# Altium schematic symbol library acopians-monitoring-hw-library-schematic.SchLib: 27 symbols
Pins are listed as number, name and electrical type; pins without a type are passive.

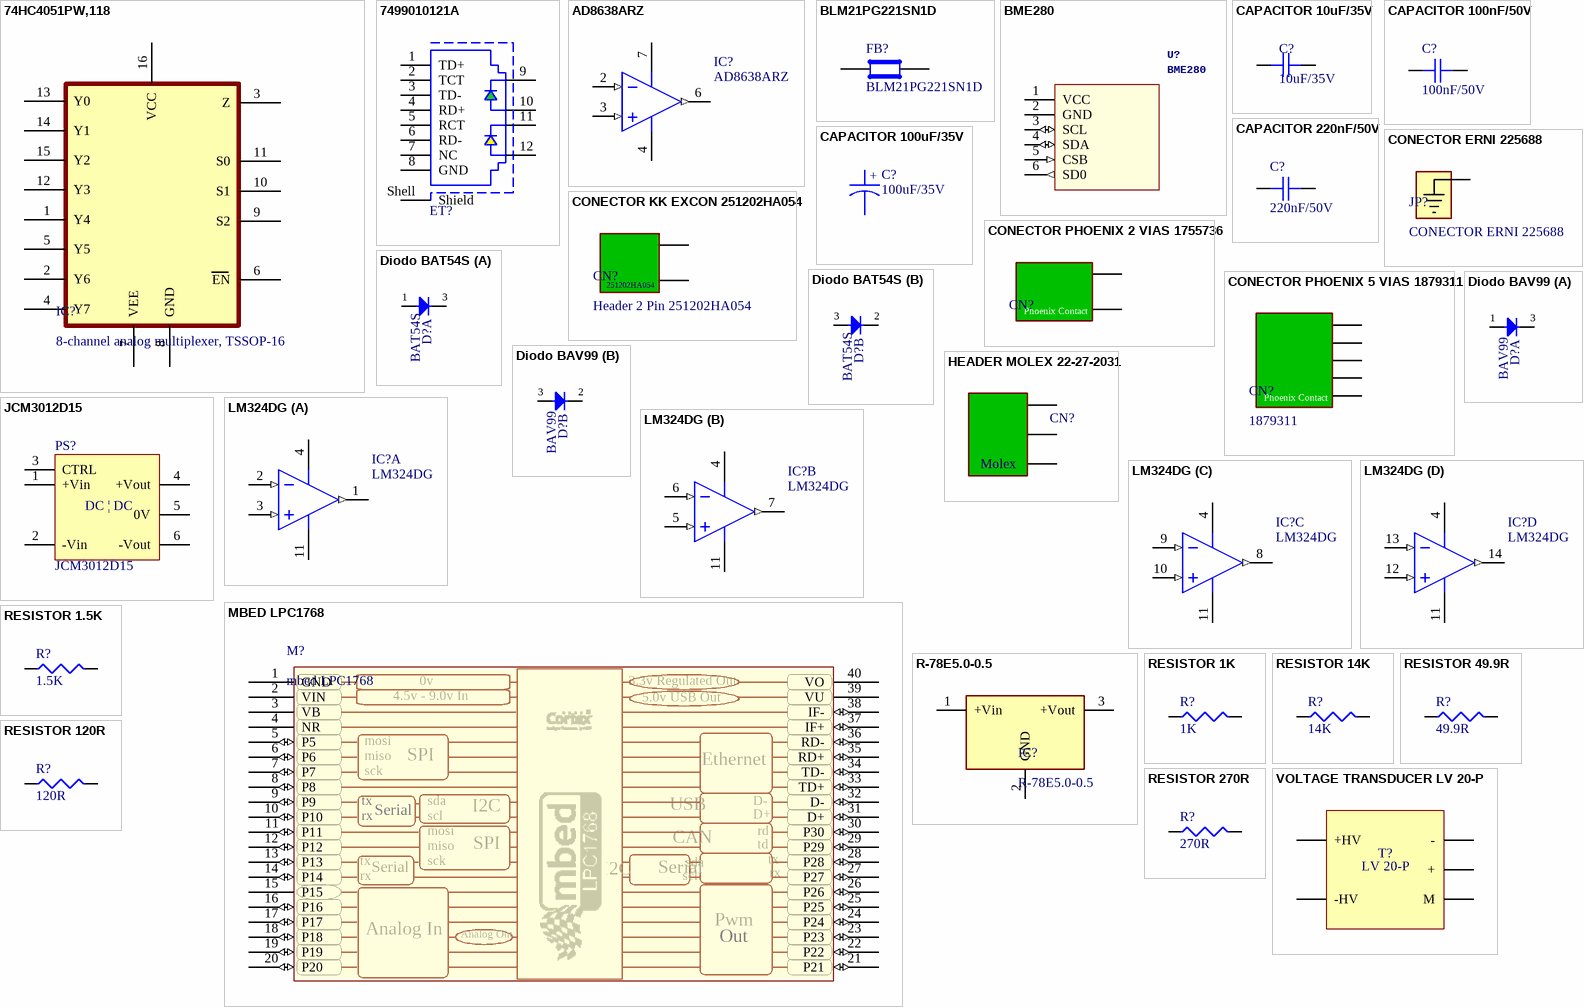
[diagram p0: symbols 74HC4051PW,118 to VOLTAGE TRANSDUCER LV 20-P]

## 74HC4051PW,118
designator IC?, comment 8-channel analog multiplexer, TSSOP-16
Manufacturer 1: Nexperia; Manufacturer Part Number 1: 74HC4051PW,118; Description 1: 74HC Series 10 V 8-Channel Analog Multiplexer/Demultiplexer - TSSOP-16; Category 1: Decoders and Multiplexers; Código LNLS: AP103267; Supplier 1: Mouser; Supplier Part Number 1: 771-74HC4051PW-T; RoHS 1: Yes; Stock 1: 33728; Pricing 1: 1=0,44, 10=0,356, 50=0,356, 100=0,264, 500=0,22, 1000=0,17, 2500=0,138, 10000=0,126, 25000=0,122, 50000=0,121 (USD); RoHS Compliant: Yes; ComponentLink1URL: https://assets.nexperia.com/documents/data-sheet/74HC_HCT4051.pdf?src-supplier=Digi-Key; ComponentLink1Description: https://assets.nexperia.com/documents/data-sheet/74HC_HCT4051.pdf?src-supplier=Digi-Key; ComponentLink2URL: https://datasheet.octopart.com/74HC4051PW%2C118-Nexperia-datasheet-12517090.pdf?src-supplier=Newark; ComponentLink2Description: https://datasheet.octopart.com/74HC4051PW%2C118-Nexperia-datasheet-12517090.pdf?src-supplier=Newark; ComponentLink3URL: https://datasheet.octopart.com/74HC4051PW%2C118-Nexperia-datasheet-62118378.pdf?src-supplier=Future+Electronics; ComponentLink3Description: https://datasheet.octopart.com/74HC4051PW%2C118-Nexperia-datasheet-62118378.pdf?src-supplier=Future+Electronics
footprint TSSOP-16
pins: 1 Y4, 2 Y6, 3 Z, 4 Y7, 5 Y5, 6 EN, 7 VEE, 8 GND, 9 S2, 10 S1, 11 S0, 12 Y3, 13 Y0, 14 Y1, 15 Y2, 16 VCC (power)

## 7499010121A
designator ET?  (value not drawn)
WE-RJ45 LAN Transformer, THT, 1 Port, 10/100 Base-T, Tab Up; Manufacturer 1: Wurth Electronics; Description 1: Telecom and Datacom Connector, 8 Contact(s), Right Angle, Solder Terminal; Category 1: Modular / Ethernet Connectors; Gender: Female; Shielding: Shielded; Connector Type: RJ45,Socket; Number of Ports: 1; Number of Positions: 8; Number of Cores per Jack: 4; Pitch: 2.54mm; Código LNLS: AP105640; Supplier 1: Mouser; Supplier Part Number 1: 710-7499010121A; Manufacturer Part Number 1: 7499010121A; RoHS 1: Yes; Stock 1: 3025; Pricing 1: 1=6,71, 10=6,52, 50=6,2, 100=5,89, 1000=5,26, 10000=5,26 (USD); Mount: Through Hole,PCB; Case/Package: Metal; Contact Plating: Gold; Color: Green,Yellow,Silver; Contact Material: Ferrite,Tin,Gold; Housing Material: Thermoplastic; Min Operating Temperature: 0°C; Max Operating Temperature: 70°C; Packaging: Rail/Tube; Termination: Through Hole; Series: WE-RJ45 LAN; Number of Rows: 1; Direction: Up; Number of Contacts: 8; Number of Ways: 8; Length: 13.5mm; Width: 16.2mm; Depth: 25.3mm; Reach SVHC Compliant: No; Lead Free: Lead Free; RoHS Compliant: Yes; Flammability Rating: UL94 V-0; ComponentLink1URL: https://datasheet.ciiva.com/11726/0900766b80f8867f-11726148.pdf?src-supplier=Rs; ComponentLink1Description: https://datasheet.ciiva.com/11726/0900766b80f8867f-11726148.pdf?src-supplier=Rs; ComponentLink2URL: https://datasheet.ciiva.com/24091/7499010121a-254210-24091293.pdf?src-supplier=Mouser; ComponentLink2Description: https://datasheet.ciiva.com/24091/7499010121a-254210-24091293.pdf?src-supplier=Mouser; ComponentLink3URL: https://datasheet.ciiva.com/1108/1736687-1108264.pdf?src-supplier=Element14; ComponentLink3Description: https://datasheet.ciiva.com/1108/1736687-1108264.pdf?src-supplier=Element14; ComponentLink4URL: https://datasheet.ciiva.com/6913/7499010121-6913964.pdf?src-supplier=Newark; ComponentLink4Description: https://datasheet.ciiva.com/6913/7499010121-6913964.pdf?src-supplier=Newark; ComponentLink5URL: https://datasheet.ciiva.com/6932/7499010121-6932396.pdf?src-supplier=Digi-Key; ComponentLink5Description: https://datasheet.ciiva.com/6932/7499010121-6932396.pdf?src-supplier=Digi-Key; ComponentLink6URL: https://datasheet.ciiva.com/16406/7499010121a-16406843.pdf?src-supplier=Future+Electronics; ComponentLink6Description: https://datasheet.ciiva.com/16406/7499010121a-16406843.pdf?src-supplier=Future+Electronics; ComponentLink7URL: https://datasheet.ciiva.com/48689/001088877-da-01-en-integrated-rj45-we-rj45lan-7499010121a-48689514.pdf?src-supplier=Conrad; ComponentLink7Description: https://datasheet.ciiva.com/48689/001088877-da-01-en-integrated-rj45-we-rj45lan-7499010121a-48689514.pdf?src-supplier=Conrad
footprint 7499010121A
pins: 1 TD+, 2 TCT, 3 TD-, 4 RD+, 5 RCT, 6 RD-, 7 NC, 8 GND, 9 KG, 10 AG, 11 KY, 12 AY, Shell Shield

## AD8638ARZ
designator IC?
Precision Amplifiers 16V Auto-Zero CMOS Amplifier; Manufacturer 1: Analog Devices; Description 1: Auto-Zero Amplifier 1 Circuit Rail-to-Rail 8-SOIC; Category 1: Amplifiers - Op Amps, Buffer, Instrumentation; Unity Gain Bandwidth Product: 1.35MHz; Common Mode Rejection Ratio: 127dB; Min Supply Voltage: 5V; Voltage Gain: 136dB; Min Dual Supply Voltage: 2.5V; Max Dual Supply Voltage: 8V; Slew Rate: 2V/µs; Number of Channels: 1; Input Bias Current: 1pA; Input Offset Voltage (Vos): 9uV; Input Voltage Noise Density: 60nV/sqrt Hz; Power Supply Rejection Ratio (PSRR): 143dB; Gain Bandwidth Product: 1.5MHz; Operating Supply Current: 1.5mA; Output Current per Channel: 37mA; Operating Supply Voltage: 15V; Código LNLS: MC132509; Supplier 1: Mouser; Supplier Part Number 1: 584-AD8638ARZ; Manufacturer Part Number 1: AD8638ARZ; RoHS 1: Yes; Stock 1: 4968; Pricing 1: 1=3,67, 10=3,12, 50=3,12, 100=2,76, 1000=2,35, 10000=1,88 (USD); Case/Package: R; Number of Pins: 8; Contact Plating: Tin,Matte; Min Operating Temperature: -40°C; Max Operating Temperature: 125°C; Max Supply Voltage: 16V; Packaging: Rail/Tube; Package Quantity: 98; Number of Circuits: 1; Number of Elements: 1; Number of Amplifiers: 1; Quiescent Current: 1.5mA; Series: -; Bandwidth: 1.5MHz; Dual Supply Voltage: 5V; Length: 5mm; Width: 4mm; Height: 1.5mm; Radiation Hardening: No; Lead Free: Contains Lead; RoHS Compliant: Yes; Reach SVHC Compliant: No; ComponentLink1URL: https://datasheet.ciiva.com/1135/679724-1135905.pdf?src-supplier=Element14; ComponentLink1Description: https://datasheet.ciiva.com/1135/679724-1135905.pdf?src-supplier=Element14; ComponentLink2URL: https://datasheet.ciiva.com/2973/ad8638-8639-2973113.pdf?src-supplier=Avnet; ComponentLink2Description: https://datasheet.ciiva.com/2973/ad8638-8639-2973113.pdf?src-supplier=Avnet; ComponentLink3URL: https://datasheet.ciiva.com/1794/ad8638-8639-1794397.pdf?src-supplier=Digi-Key; ComponentLink3Description: https://datasheet.ciiva.com/1794/ad8638-8639-1794397.pdf?src-supplier=Digi-Key; ComponentLink4URL: https://datasheet.ciiva.com/48705/001249426-da-01-en-ic-opamp-chopper-r-ad8638arz-soic-8-adi-48705866.pdf?src-supplier=Conrad; ComponentLink4Description: https://datasheet.ciiva.com/48705/001249426-da-01-en-ic-opamp-chopper-r-ad8638arz-soic-8-adi-48705866.pdf?src-supplier=Conrad
footprint SOIC-N-8
pins: 2 -In (in), 3 +In (in), 4 V- (power), 6 Output (out), 7 V+ (power)

## BLM21PG221SN1D
designator FB?
Ferrite Bead 220 OHM 0805 1LN; Manufacturer 1: Murata; Description 1: Ferrite Beads Multi-Layer 220Ohm 25% 100MHz 2A 45mOhm DCR 0805 Paper T/R; Category 1: Ferrite Beads and Chips; Material: Steel,Ferrite; Impedance: 220R; Tolerance: 25%; Max Current Rating: 2A; Number of Lines: 1; DC Resistance (DCR): 45mR; Test Frequency: 100MHz; Shielding: Unshielded; Código LNLS: AP105046; Supplier 1: Digi-Key; Supplier Part Number 1: 490-1054-2-ND; Manufacturer Part Number 1: BLM21PG221SN1D; RoHS 1: Yes; Stock 1: 2578074; Pricing 1: 4000=0,03608, 8000=0,02744, 28000=0,02352 (USD); Case/Package: 0805; Number of Pins: 2; Core Material: Ferrite; Case Code (Metric): 2012; Case Code (Imperial): 0805; Min Operating Temperature: -55°C; Max Operating Temperature: 125°C; Package Quantity: 1; Packaging: Tape and Reel; Current Rating: 2A; Max DC Current: 2A; Termination: SMD/SMT; DC Current: 2A; Frequency: 100MHz; Number of Circuits: 1; Current: 2A; Series: BLM21P; DC Resistance-Max: 45mR; RMS Current (Irms): 2A; Series Resistance: 45mR; Length: 2mm; Width: 1.25mm; Height: 0.85mm; Depth: 1.25mm; Radiation Hardening: No; RoHS Compliant: Yes; Reach SVHC Compliant: No; Military Standard: Not; Lead Free: Lead Free; ComponentLink1URL: https://datasheet.ciiva.com/30514/1845321-30514028.pdf?src-supplier=Jameco; ComponentLink1Description: https://datasheet.ciiva.com/30514/1845321-30514028.pdf?src-supplier=Jameco; ComponentLink2URL: https://datasheet.ciiva.com/1012/l0110s0100blm21p-1012288.pdf?src-supplier=Digi-Key; ComponentLink2Description: https://datasheet.ciiva.com/1012/l0110s0100blm21p-1012288.pdf?src-supplier=Digi-Key; ComponentLink3URL: https://datasheet.ciiva.com/11799/0900766b81275e31-11799232.pdf?src-supplier=Rs; ComponentLink3Description: https://datasheet.ciiva.com/11799/0900766b81275e31-11799232.pdf?src-supplier=Rs; ComponentLink4URL: https://datasheet.ciiva.com/29348/442529-da-01-en-chip-drossel-0805-220r-2000ma-2-0x1-25mm-29348007.pdf?src-supplier=Conrad; ComponentLink4Description: https://datasheet.ciiva.com/29348/442529-da-01-en-chip-drossel-0805-220r-2000ma-2-0x1-25mm-29348007.pdf?src-supplier=Conrad; ComponentLink5URL: https://datasheet.ciiva.com/8021/1756152-8021596.pdf?src-supplier=Element14; ComponentLink5Description: https://datasheet.ciiva.com/8021/1756152-8021596.pdf?src-supplier=Element14; ComponentLink6URL: https://datasheet.ciiva.com/14122/anblm21p-data-e-14122214.pdf?src-supplier=Distrelec; ComponentLink6Description: https://datasheet.ciiva.com/14122/anblm21p-data-e-14122214.pdf?src-supplier=Distrelec; ComponentLink7URL: https://datasheet.ciiva.com/1012/l0110s0100blm21p-1012287.pdf?src-supplier=Digi-Key; ComponentLink7Description: https://datasheet.ciiva.com/1012/l0110s0100blm21p-1012287.pdf?src-supplier=Digi-Key; ComponentLink8URL: https://datasheet.ciiva.com/1012/l0110s0100blm21p-1012289.pdf?src-supplier=Digi-Key; ComponentLink8Description: https://datasheet.ciiva.com/1012/l0110s0100blm21p-1012289.pdf?src-supplier=Digi-Key; ComponentLink9URL: https://datasheet.ciiva.com/8021/1756152-8021598.pdf?src-supplier=Element14; ComponentLink9Description: https://datasheet.ciiva.com/8021/1756152-8021598.pdf?src-supplier=Element14; ComponentLink10URL: https://datasheet.ciiva.com/3081/l0110s0100blm21p-3081655.pdf?src-supplier=Avnet; ComponentLink10Description: https://datasheet.ciiva.com/3081/l0110s0100blm21p-3081655.pdf?src-supplier=Avnet; ComponentLink11URL: https://datasheet.ciiva.com/16215/l0110s0100blm21p-16215194.pdf?src-supplier=Future+Electronics; ComponentLink11Description: https://datasheet.ciiva.com/16215/l0110s0100blm21p-16215194.pdf?src-supplier=Future+Electronics
footprint Ferrite_Bead_0805
pins: 1, 2

## BME280
designator U?
footprint BME280
pins: 1 VCC (power), 2 GND (power), 3 SCL (io), 4 SDA (io), 5 CSB (in), 6 SD0 (out)

## CAPACITOR 10uF/35V
designator C?, comment 10uF/35V
Capacitor 10UF 35V X5R 0805; Manufacturer: TDK; Manufacturer Part Number: C2012X5R1V106K085AC; Dielectric Material: Ceramic; Tolerance: 10%; Código LNLS: AP105062; Supplier 1: Digi-Key; Stock 1: 56135; Pricing 1: 1=0.73, 10=0.519, 100=0.3416, 500=0.253, 1000=0.2151 (USD); Case/Package: 0805; Weight: 0.000194oz; Case Code (Metric): 2012; Case Code (Imperial): 0805; Min Operating Temperature: -55°C; Max Operating Temperature: 85°C; Package Quantity: 1; Packaging: Tape and Reel; Capacitance: 10uF; Voltage Rating: 35V; Dielectric: X5R; Termination: SMD/SMT; Voltage Rating (DC): 35V; Length: 0.079inch; Height: 0.85mm; Width: 0.049inch; Thickness: 0.039inch; REACH SVHC: No SVHC; Lead Free: Lead Free; ComponentLink1URL: https://datasheet.ciiva.com/14894/tdkmlcccaprange-14894527.pdf; ComponentLink1Description: https://datasheet.ciiva.com/14894/tdkmlcccaprange-14894527.pdf; Supplier Part Number 1: 445-14417-1-ND
footprint C0805
pins: 1, 2

## CAPACITOR 100nF/50V
designator C?, comment 100nF/50V
Capacitor 0.1UF 50V X7R 0805; Manufacturer 1: Kyocera AVX; Manufacturer Part Number 1: 08055C104KAZ2A; Description 1: Capacitor Ceramic 0.1uF 50V X7R 10% SMD 0805 FlexiTerm 125C Paper T/R; Category 1: Ceramic Capacitors; Capacitance: 100nF; Tolerance: 10%; Temperature Coefficient: 30ppm/°C; Dissipation Factor: 2.5%; Código LNLS: AP106675; Supplier 1: Arrow Electronics; Supplier Part Number 1: 08055C104KAZ2A; RoHS 1: Yes; Stock 1: 28000; Pricing 1: 4000=0,0262 (USD); Mount: Surface Mount,PCB; Case/Package: 0805; Number of Pins: 2; Case Code (Metric): 2012; Case Code (Imperial): 0805; Min Operating Temperature: -55°C; Max Operating Temperature: 125°C; Packaging: Tape and Reel; Voltage Rating (DC): 50V; Dielectric: X7R; Package Quantity: 4000; Series: FLEXITERM®; Voltage Rating: 50V; Termination: SMD/SMT; Voltage: 50V; Features: Soft Termination; Construction: Flat; Length: 2.01mm; Width: 1.25mm; Height: 0.94mm; Depth: 1.25mm; Reach SVHC Compliant: No; Lead Free: Lead Free; RoHS Compliant: Yes; ComponentLink1URL: https://datasheet.ciiva.com/28613/630895-28613376.pdf?src-supplier=Element14; ComponentLink1Description: https://datasheet.ciiva.com/28613/630895-28613376.pdf?src-supplier=Element14; ComponentLink2URL: https://datasheet.ciiva.com/11788/0900766b80dc2409-11788550.pdf?src-supplier=Rs; ComponentLink2Description: https://datasheet.ciiva.com/11788/0900766b80dc2409-11788550.pdf?src-supplier=Rs; ComponentLink3URL: https://datasheet.ciiva.com/30514/2014094-30514066.pdf?src-supplier=Jameco; ComponentLink3Description: https://datasheet.ciiva.com/30514/2014094-30514066.pdf?src-supplier=Jameco; ComponentLink4URL: https://datasheet.ciiva.com/11499/flexiterm-11499901.pdf?src-supplier=Avnet; ComponentLink4Description: https://datasheet.ciiva.com/11499/flexiterm-11499901.pdf?src-supplier=Avnet; ComponentLink5URL: https://datasheet.ciiva.com/5417/cx7r-218113-5417323.pdf?src-supplier=Mouser; ComponentLink5Description: https://datasheet.ciiva.com/5417/cx7r-218113-5417323.pdf?src-supplier=Mouser; ComponentLink6URL: https://datasheet.ciiva.com/28613/630895-28613368.pdf?src-supplier=Element14; ComponentLink6Description: https://datasheet.ciiva.com/28613/630895-28613368.pdf?src-supplier=Element14; ComponentLink7URL: https://datasheet.ciiva.com/151/flexiterm-151512.pdf?src-supplier=Digi-Key; ComponentLink7Description: https://datasheet.ciiva.com/151/flexiterm-151512.pdf?src-supplier=Digi-Key; ComponentLink8URL: https://datasheet.ciiva.com/151/flexiterm-151513.pdf?src-supplier=Digi-Key; ComponentLink8Description: https://datasheet.ciiva.com/151/flexiterm-151513.pdf?src-supplier=Digi-Key; ComponentLink9URL: https://datasheet.ciiva.com/151/flexiterm-151514.pdf?src-supplier=Digi-Key; ComponentLink9Description: https://datasheet.ciiva.com/151/flexiterm-151514.pdf?src-supplier=Digi-Key; ComponentLink10URL: https://datasheet.ciiva.com/14602/70001075-14602617.pdf?src-supplier=Allied+Electronics; ComponentLink10Description: https://datasheet.ciiva.com/14602/70001075-14602617.pdf?src-supplier=Allied+Electronics; ComponentLink11URL: https://datasheet.ciiva.com/16427/cx7r-16427406.pdf?src-supplier=Future+Electronics; ComponentLink11Description: https://datasheet.ciiva.com/16427/cx7r-16427406.pdf?src-supplier=Future+Electronics
footprint C0805
pins: 1, 2

## CAPACITOR 100uF/35V
designator C?, comment 100uF/35V
Capacitor Alum 100UF 35V 20% SMD - EEE-HAV101XAP; Manufacturer: Panasonic; Capacitance: 100µF; Lifetime @ Temp.: 1000 Hrs @ 105°C; Ripple Current: 84mA; Surface Mount Land Size: 0.260" L x 0.260" W (6.60mm x 6.60mm); Código LNLS: AP105066; Part Number: EEE-HAV101XAP; Supplier 1: Digi-Key; Supplier Part Number 1: PCE4726CT-ND; Value: 100uF; Manufacturer Part Number: EEE-HAV101XAP; RoHS: RoHS Compliant; Category: Capacitors; Stock 1: 1957; Pricing 1: 1=0.63, 50=0.3758, 100=0.3289, 250=0.2584, 500=0.2349 (USD); Packaging: Cut Tape (CT); Tolerance: ±20%; Voltage Rating: 35V; ESR (Equivalent Series Resistance): -; Operating Temperature: -40°C ~ 105°C; Type: -; Applications: Automotive; Impedance: -; Lead Spacing: -; Size / Dimension: 0.248" Dia (6.30mm); Height - Seated (Max): 0.303" (7.70mm); Mounting Type: Surface Mount; Package / Case: Radial, Can - SMD; ComponentLink1URL: http://industrial.panasonic.com/www-cgi/jvcr13pz.cgi?E+PZ+3+ABA0116+EEEHAV101XAP+7+WW; ComponentLink1Description: http://industrial.panasonic.com/www-cgi/jvcr13pz.cgi?E+PZ+3+ABA0116+EEEHAV101XAP+7+WW
footprint CAP_ALUM_case_D8
pins: 1 Lid +, 2
text: +

## CAPACITOR 220nF/50V
designator C?, comment 220nF/50V
Capacitor 220NF 50V X7R 0805; Manufacturer: Murata; Manufacturer Part Number: GRM21BR71H224MA01L; Tolerance: 20%; Código LNLS: AP112018; Supplier 1: Digi-Key; RoHS: Yes; Category: Ceramic Capacitors; Stock 1: 27774; Pricing 1: 1=0,37000, 10=0,25200, 50=0,16800, 100=0,14270, 500=0,10074, 1000=0,08815 (USD); Mount: Surface Mount; Case/Package: 0805; Case Code (Metric): 2012; Case Code (Imperial): 0805; Min Operating Temperature: -55°C; Max Operating Temperature: 125°C; Package Quantity: 1; Capacitance: 220nF; Packaging: Tape and Reel; Voltage Rating: 50V; Dielectric: X7R; Termination: SMD/SMT; Voltage Rating (DC): 50V; Series: GRM; Construction: Flat; Length: 2mm; Width: 0.049inch; Height: 1.25mm; Thickness: 0.053inch; Depth: 1.25mm; Radiation Hardening: No; Lead Free: Lead Free; RoHS Compliant: Yes; ComponentLink1URL: https://datasheet.ciiva.com/5421/product-5421097.pdf?src-supplier=Mouser; ComponentLink1Description: https://datasheet.ciiva.com/5421/product-5421097.pdf?src-supplier=Mouser; ComponentLink2URL: https://datasheet.ciiva.com/136/partnumbering-e-01-136537.pdf?src-supplier=Digi-Key; ComponentLink2Description: https://datasheet.ciiva.com/136/partnumbering-e-01-136537.pdf?src-supplier=Digi-Key; ComponentLink3URL: https://datasheet.ciiva.com/136/partnumbering-e-01-136536.pdf?src-supplier=Digi-Key; ComponentLink3Description: https://datasheet.ciiva.com/136/partnumbering-e-01-136536.pdf?src-supplier=Digi-Key; ComponentLink4URL: https://datasheet.ciiva.com/136/partnumbering-e-01-136538.pdf?src-supplier=Digi-Key; ComponentLink4Description: https://datasheet.ciiva.com/136/partnumbering-e-01-136538.pdf?src-supplier=Digi-Key; Supplier Part Number 1: 490-1671-1-ND
footprint C0805
pins: 1, 2

## CONECTOR ERNI 225688
designator JP?
Manufacturer 1: TE Connectivity; Manufacturer Part Number 1: 225688-E; Description 1: Conn M4 Threaded Power Connector Receptacle 1 POS ST; Código LNLS: AP109660; Supplier 1: Digi-Key; Supplier Part Number 1: 2684-225688-E-ND; RoHS 1: No; Stock 1: 659; Pricing 1: 1=5,29, 10=4,802, 25=4,548, 50=4,4422, 100=4,2307, 250=3,70184, 500=3,59608, 1000=3,06725, 2500=2,85572 (USD); ComponentLink1Description: https://www.erni.com/fileadmin/import/products/assets/DC0007196.PDF; ComponentLink1URL: https://www.erni.com/fileadmin/import/products/assets/DC0007196.PDF
footprint CONECTOR ERNI 225688
pins: 1

## CONECTOR KK EXCON 251202HA054
designator CN?, comment Header 2 Pin 251202HA054
Código LNLS: MT111636; ComponentLink1Description: https://www.excon.com.tw/images/Drawing/2512WV.pdf; ComponentLink1URL: https://www.excon.com.tw/images/Drawing/2512WV.pdf
footprint CONECTOR KK EXCON 251202HA054
pins: 1, 2
text: 251202HA054

## CONECTOR PHOENIX 2 VIAS 1755736
designator CN?, comment 1755736  (value not drawn)
Conector Phoenix 2 vias 1755736; Manufacturer: Phoenix Contact; Number of Positions: 2; Number of Levels: 1; Pitch: 0.200" (5.08mm); Header Orientation: Vertical; Current - IEC: 12A; Voltage - IEC: 630V; Voltage - UL: 300V; Material Flammability Rating: UL94 V-0; Contact Tail Length: 0.154" (3.90mm); Código LNLS: MT101663; Supplier 1: Digi-Key; Manufacturer Part Number: 1755736; RoHS: RoHS Compliant; Category: Connectors, Interconnects; Stock 1: 11008; Pricing 1: 1=0.59, 10=0.564, 50=0.539, 100=0.5243, 250=0.49, 500=0.4508, 1000=0.4165, 2500=0.3969, 5000=0.3724 (USD); Packaging: Bulk; Part Status: Active; Type: Header, Male Pins, Shrouded (4 Side); Positions Per Level: 2; Plug Wire Entry: -; Termination Style: Solder; Mounting Type: Through Hole; Current - UL: 12A; Wire Gauge or Range - AWG: -; Wire Gauge or Range - mm²: -; Color: Green; Operating Temperature: -; Contact Mating Finish: Tin; Features: -; Ingress Protection: -; Screw Size: -; Torque - Screw: -; Wire Strip Length: -; Contact Material: -; Housing Material: Polyamide (PA), Nylon; Insulation Height: 0.472" (12.00mm); ComponentLink1URL: http://media.digikey.com/pdf/Data%20Sheets/Phoenix%20Contact%20PDFs/1755736.pdf; ComponentLink1Description: http://media.digikey.com/pdf/Data%20Sheets/Phoenix%20Contact%20PDFs/1755736.pdf; Supplier Part Number 1: 277-1150-ND
footprint Conector Phoenix 2 vias 1755736
pins: 1, 2

## CONECTOR PHOENIX 5 VIAS 1879311
designator CN?, comment 1879311
Conector Phoenix 5 vias 1879311; Código LNLS: AP102667; ComponentLink1Description: https://www.onlinecomponents.com/en/datasheet/emcv155gf381-48817554/; ComponentLink1URL: https://www.onlinecomponents.com/en/datasheet/emcv155gf381-48817554/
footprint Conector Phoenix 5 vias 1879311
pins: 1, 2, 3, 4, 5
text: Phoenix Contact

## Diodo BAT54S
designator D?, comment BAT54S
200mA Schottky Diode, 30 VRRM, Cascade Configutation, SMD SOT-23; Manufacturer 1: ON Semiconductor / Fairchild; Manufacturer Part Number 1: BAV99WT1G; Description 1: Diode Ultra Fast Recovery Rectifier 70V 0.2A 3-Pin SOT-323 T/R; Category 1: Rectifier Diodes; Max Surge Current: 2A; Recovery Time: 6ns; Power Dissipation: 300mW; Max Reverse Current: 2.5uA; Forward Voltage: 1.25V; Max Repetitive Reverse Voltage (Vrrm): 70V; Average Rectified Current: 215mA; Max Reverse Voltage (DC): 100V; Max Reverse Leakage Current: 2.4uA; Código LNLS: MT103197; Author: CERN DEM JLC; RoHS 1: Yes; Stock 1: 247099; Pricing 1: 1=0,16, 10=0,115, 50=0,115, 100=0,049, 1000=0,034, 10000=0,022 (USD); Mount: Surface Mount; Case/Package: SOT-323; Number of Pins: 3; Contact Plating: Tin,Matte; Weight: 0.03g; Min Operating Temperature: -65°C; Max Operating Temperature: 150°C; Packaging: Tape and Reel; Package Quantity: 1; Reverse Recovery Time: 6ns; Forward Current: 200mA; Reverse Voltage: 70V; Series: -; Peak Non-Repetitive Surge Current: 2A; Max Forward Surge Current (Ifsm): 2A; Termination: SMD/SMT; Reverse Recovery Time-Max: 6ns; Length: 2.1mm; Width: 1.24mm; Height: 0.85mm; Radiation Hardening: No; RoHS Compliant: Yes; Reach SVHC Compliant: No; Lead Free: Lead Free; ComponentLink1URL: https://datasheet.ciiva.com/5794/bav99wt1-d-5794016.pdf?src-supplier=Farnell; ComponentLink1Description: https://datasheet.ciiva.com/5794/bav99wt1-d-5794016.pdf?src-supplier=Farnell; ComponentLink2URL: https://datasheet.ciiva.com/905/bav99wt1-d-905792.pdf?src-supplier=Digi-Key; ComponentLink2Description: https://datasheet.ciiva.com/905/bav99wt1-d-905792.pdf?src-supplier=Digi-Key; ComponentLink3URL: https://datasheet.ciiva.com/4452/bav99wt1g-105474-4452790.pdf?src-supplier=Mouser; ComponentLink3Description: https://datasheet.ciiva.com/4452/bav99wt1g-105474-4452790.pdf?src-supplier=Mouser; ComponentLink4URL: https://datasheet.ciiva.com/8303/bav99wt1g-8303685.pdf?src-supplier=Avnet; ComponentLink4Description: https://datasheet.ciiva.com/8303/bav99wt1g-8303685.pdf?src-supplier=Avnet; ComponentLink5URL: https://datasheet.ciiva.com/16742/bav99wt1g-16742585.pdf?src-supplier=Future+Electronics; ComponentLink5Description: https://datasheet.ciiva.com/16742/bav99wt1g-16742585.pdf?src-supplier=Future+Electronics; ComponentLink6URL: https://datasheet.ciiva.com/46428/1863368-46428599.pdf?src-supplier=Element14; ComponentLink6Description: https://datasheet.ciiva.com/46428/1863368-46428599.pdf?src-supplier=Element14; ComponentLink7URL: https://datasheet.ciiva.com/905/bav99wt1-d-905793.pdf?src-supplier=Digi-Key; ComponentLink7Description: https://datasheet.ciiva.com/905/bav99wt1-d-905793.pdf?src-supplier=Digi-Key; ComponentLink8URL: https://datasheet.ciiva.com/905/bav99wt1-d-905794.pdf?src-supplier=Digi-Key; ComponentLink8Description: https://datasheet.ciiva.com/905/bav99wt1-d-905794.pdf?src-supplier=Digi-Key; ComponentLink9URL: https://datasheet.ciiva.com/906/bav99wt1g-906843.pdf?src-supplier=Digi-Key; ComponentLink9Description: https://datasheet.ciiva.com/906/bav99wt1g-906843.pdf?src-supplier=Digi-Key; ComponentLink10URL: https://datasheet.ciiva.com/1180/bav99wt1-d-1180786.pdf?src-supplier=Element14; ComponentLink10Description: https://datasheet.ciiva.com/1180/bav99wt1-d-1180786.pdf?src-supplier=Element14; Supplier 1: Mouser; Supplier Part Number 1: 637-BAT54S
footprint SOT23-3
part A pins: 1 A, 3 COMAC
part B pins: 2 C, 3 COMAC

## Diodo BAV99
designator D?, comment BAV99
Diode Array GP 100V 215MA SOT23; Manufacturer 1: ON Semiconductor / Fairchild; Manufacturer Part Number 1: BAV99WT1G; Description 1: Diode Ultra Fast Recovery Rectifier 70V 0.2A 3-Pin SOT-323 T/R; Category 1: Rectifier Diodes; Max Surge Current: 2A; Recovery Time: 6ns; Power Dissipation: 300mW; Max Reverse Current: 2.5uA; Forward Voltage: 1.25V; Max Repetitive Reverse Voltage (Vrrm): 70V; Forward Current: 200mA; Max Reverse Leakage Current: 2.4uA; Código LNLS: MT103197; Author: CERN DEM JLC; Supplier 1: Mouser; Supplier Part Number 1: 863-BAV99WT1G; RoHS 1: Yes; Stock 1: 247099; Pricing 1: 1=0,16, 10=0,115, 50=0,115, 100=0,049, 1000=0,034, 10000=0,022 (USD); Mount: Surface Mount; Case/Package: SOT-323; Number of Pins: 3; Contact Plating: Tin,Matte; Weight: 0.03g; Min Operating Temperature: -65°C; Max Operating Temperature: 150°C; Packaging: Tape and Reel; Package Quantity: 1; Reverse Recovery Time: 6ns; Average Rectified Current: 215mA; Reverse Voltage: 70V; Max Reverse Voltage (DC): 100V; Series: -; Peak Non-Repetitive Surge Current: 2A; Max Forward Surge Current (Ifsm): 2A; Termination: SMD/SMT; Reverse Recovery Time-Max: 6ns; Length: 2.1mm; Width: 1.24mm; Height: 0.85mm; Radiation Hardening: No; RoHS Compliant: Yes; Reach SVHC Compliant: No; Lead Free: Lead Free; ComponentLink1URL: https://datasheet.ciiva.com/5794/bav99wt1-d-5794016.pdf?src-supplier=Farnell; ComponentLink1Description: https://datasheet.ciiva.com/5794/bav99wt1-d-5794016.pdf?src-supplier=Farnell; ComponentLink2URL: https://datasheet.ciiva.com/905/bav99wt1-d-905792.pdf?src-supplier=Digi-Key; ComponentLink2Description: https://datasheet.ciiva.com/905/bav99wt1-d-905792.pdf?src-supplier=Digi-Key; ComponentLink3URL: https://datasheet.ciiva.com/4452/bav99wt1g-105474-4452790.pdf?src-supplier=Mouser; ComponentLink3Description: https://datasheet.ciiva.com/4452/bav99wt1g-105474-4452790.pdf?src-supplier=Mouser; ComponentLink4URL: https://datasheet.ciiva.com/8303/bav99wt1g-8303685.pdf?src-supplier=Avnet; ComponentLink4Description: https://datasheet.ciiva.com/8303/bav99wt1g-8303685.pdf?src-supplier=Avnet; ComponentLink5URL: https://datasheet.ciiva.com/16742/bav99wt1g-16742585.pdf?src-supplier=Future+Electronics; ComponentLink5Description: https://datasheet.ciiva.com/16742/bav99wt1g-16742585.pdf?src-supplier=Future+Electronics; ComponentLink6URL: https://datasheet.ciiva.com/46428/1863368-46428599.pdf?src-supplier=Element14; ComponentLink6Description: https://datasheet.ciiva.com/46428/1863368-46428599.pdf?src-supplier=Element14; ComponentLink7URL: https://datasheet.ciiva.com/905/bav99wt1-d-905793.pdf?src-supplier=Digi-Key; ComponentLink7Description: https://datasheet.ciiva.com/905/bav99wt1-d-905793.pdf?src-supplier=Digi-Key; ComponentLink8URL: https://datasheet.ciiva.com/905/bav99wt1-d-905794.pdf?src-supplier=Digi-Key; ComponentLink8Description: https://datasheet.ciiva.com/905/bav99wt1-d-905794.pdf?src-supplier=Digi-Key; ComponentLink9URL: https://datasheet.ciiva.com/906/bav99wt1g-906843.pdf?src-supplier=Digi-Key; ComponentLink9Description: https://datasheet.ciiva.com/906/bav99wt1g-906843.pdf?src-supplier=Digi-Key; ComponentLink10URL: https://datasheet.ciiva.com/1180/bav99wt1-d-1180786.pdf?src-supplier=Element14; ComponentLink10Description: https://datasheet.ciiva.com/1180/bav99wt1-d-1180786.pdf?src-supplier=Element14
footprint SOT23-3
part A pins: 1 A, 3 COMAC
part B pins: 2 C, 3 COMAC

## HEADER MOLEX 22-27-2031
designator CN?, comment Header Molex 3 Pin 22-27-2031  (value not drawn)
Manufacturer: Molex, LLC; Manufacturer Part Number: 0022272031; Pitch - Mating: 0.100" (2.54mm); Style: Board to Cable/Wire; Shrouding: Shrouded - 1 Wall; Number of Positions: 3; Number of Positions Loaded: All; Contact Length - Mating: 0.295" (7.49mm); Contact Length - Post: 0.140" (3.56mm); Overall Contact Length: 0.560" (14.22mm); Material Flammability Rating: UL94 V-0; Código LNLS: MT103887; Supplier 1: Digi-Key; RoHS: RoHS Compliant; Category: Connectors, Interconnects; Stock 1: 19040; Pricing 1: 1=0.35, 10=0.334, 25=0.2864, 50=0.2436, 100=0.234, 250=0.21012, 500=0.20056, 1000=0.16713, 2500=0.1528 (USD); Packaging: Bulk; Part Status: Active; Connector Type: Header; Contact Type: Male Pin; Number of Rows: 1; Row Spacing - Mating: -; Mounting Type: Through Hole; Termination: Solder; Fastening Type: Friction Lock; Insulation Height: 0.461" (11.70mm); Contact Shape: Square; Contact Finish - Mating: Tin; Contact Finish Thickness - Mating: 100µin (2.54µm); Contact Finish - Post: Tin; Contact Material: Brass; Insulation Material: Polyamide (PA), Nylon; Features: -; Operating Temperature: -; Ingress Protection: -; Insulation Color: Natural; Current Rating: -; Voltage Rating: -; Mated Stacking Heights: -; Contact Finish Thickness - Post: 100µin (2.54µm); Applications: Automotive, General Purpose, Medical, Telecommunications; ComponentLink1URL: http://www.molex.com/pdm_docs/sd/022272031_sd.pdf; ComponentLink1Description: http://www.molex.com/pdm_docs/sd/022272031_sd.pdf; Supplier Part Number 1: WM4112-ND
footprint HEADER MOLEX 22 27 2031
pins: 1 +15V, 2 M, 3 -15V
text: Molex

## JCM3012D15
designator PS?
DC-DC, 30W, DUAL OUTPUT, 2:1, 1X; Manufacturer: XP Power; Number of Outputs: 2; Voltage - Input (Min): 9V; Voltage - Input (Max): 18V; Voltage - Output 1: 15V; Voltage - Output 2: -15V; Current - Output (Max): 1A, 1A; Voltage - Isolation: 1.6kV (1600V); Efficiency: 90%; Código LNLS: MT103202; Supplier 1: Digi-Key; Manufacturer Part Number: JCM3012D15; RoHS: RoHS Compliant; Category: Power Supplies - Board Mount; Stock 1: 20; Pricing 1: 1=41, 5=39.77, 10=38.54, 25=36.9004, 100=34.697 (USD); Packaging: Tube; Part Status: Active; Type: Isolated Module; Voltage - Output 3: -; Power (Watts) - Manufacture Series: 30W; Applications: ITE (Commercial); Features: Remote On/Off, OVP, SCP; Mounting Type: Through Hole; Package / Case: 6-DIP Module; Size / Dimension: 1.00" L x 1.00" W x 0.41" H (25.4mm x 25.4mm x 10.4mm); Operating Temperature: -40°C ~ 100°C; ComponentLink1URL: http://www.xppower.com/Portals/0/pdfs/SF_JCM30.pdf; ComponentLink1Description: http://www.xppower.com/Portals/0/pdfs/SF_JCM30.pdf; Supplier Part Number 1: 1470-3706-ND
footprint JCM30
pins: 1 +Vin, 2 -Vin, 3 CTRL, 4 +Vout, 5 0V, 6 -Vout
text: DC | DC

## LM324DG
designator IC?
Operational Amplifiers - Op Amps 3-32V Quad 5mV; Manufacturer 1: Texas Instruments; Manufacturer Part Number 1: LM324DG4; Description 1: 4-Channel industry standard operational amplifier 14-SOIC 0 to 70; Category 1: Amplifiers - Op Amps, Buffer, Instrumentation; Operating Supply Voltage: 16V; Voltage Gain: 100dB; Slew Rate: 0.5V/µs; Common Mode Rejection Ratio: 65dB; Number of Channels: 4; Output Current: 30mA; Max Supply Voltage: 32V; Min Supply Voltage: 3V; Min Dual Supply Voltage: 1.5V; Gain Bandwidth Product: 1.2MHz; Input Bias Current: 20nA; Input Offset Voltage (Vos): 3mV; Operating Supply Current: 1.4mA; Output Current per Channel: 60mA; Amplifier Type: GENERAL PURPOSE; Supply Current: 3mA; Código LNLS: MT104472; Supplier 1: Mouser; Supplier Part Number 1: 595-LM324DG4; RoHS 1: Yes; Stock 1: 4026; Pricing 1: 1=0,9, 10=0,761, 50=0,761, 100=0,583, 1000=0,407, 10000=0,381 (USD); Mount: Surface Mount; Case/Package: SOIC; Number of Pins: 14; Min Operating Temperature: 0°C; Max Operating Temperature: 70°C; Package Quantity: 50; Packaging: Rail/Tube; Max Dual Supply Voltage: 16V; Number of Circuits: 4; Bandwidth: 1.2MHz; Technology: BIPOLAR; Radiation Hardening: No; Lead Free: Lead Free; RoHS Compliant: Yes; ComponentLink1URL: https://datasheet.ciiva.com/1811/lm224-1811004.pdf?src-supplier=Digi-Key; ComponentLink1Description: https://datasheet.ciiva.com/1811/lm224-1811004.pdf?src-supplier=Digi-Key
footprint SOIC-14
pins on every part: 4 V+ (power), 11 V- (power)
part A pins: 1 OUT A (out), 2 IN A- (in), 3 IN A+ (in)
part B pins: 5 IN B+ (in), 6 IN B- (in), 7 OUT B (out)
part C pins: 8 OUT C (out), 9 IN C- (in), 10 IN C+ (in)
part D pins: 12 IN D+ (in), 13 IN D- (in), 14 OUT D (out)

## MBED LPC1768
designator M?, comment mbed LPC1768
Mbed LPC 1768
footprint DIP40-LPC1768
pins: 1 GND (power), 2 VIN (power), 3 VB (power), 4 NR (power), 5 P5 (io), 6 P6 (io), 7 P7 (io), 8 P8 (io), 9 P9 (io), 10 P10 (io), 11 P11 (io), 12 P12 (io), 13 P13 (io), 14 P14 (io), 15 P15, 16 P16 (io), 17 P17 (io), 18 P18 (io), 19 P19 (io), 20 P20 (io), 21 P21 (io), 22 P22 (io), 23 P23 (io), 24 P24 (io), 25 P25 (io), 26 P26 (io), 27 P27 (io), 28 P28 (io), 29 P29 (io), 30 P30 (io), 31 D+ (io), 32 D- (io), 33 TD+ (io), 34 TD- (io), 35 RD+ (io), 36 RD- (io), 37 IF+ (io), 38 IF- (io), 39 VU (power), 40 VO (power)
text: 0v; 3.3v Regulated Out; 4.5v - 9.0v In; 5.0v USB Out; mosi; miso; SPI; Ethernet; sck; tx; sda; Serial; I2C; USB; rx; scl; rd; CAN; td; Pwm; Analog In; Analog Out; Out

## R-78E5.0-0.5
designator IC?
CONV DC/DC 5V 500MA OUT THRU; Manufacturer: Recom; Power Rating: 2.5W; Min Input Voltage (DC): 7V; Max Input Voltage (DC): 28V; Number of Outputs: 1; Efficiency: 92%; Isolation: Non-Isolated; Max Power Dissipation: 3W; Código LNLS: AP105018; Supplier 1: Digi-Key; Manufacturer Part Number: R-78E5.0-0.5; Stock 1: 10893; Pricing 1: 1=2.7, 5=2.656, 10=2.618, 25=2.5412, 50=2.464, 100=2.387, 250=2.31, 500=2.156 (USD); Mount: Through Hole,PCB; Case/Package: SIP; Number of Pins: 3; Weight: 2g; Min Operating Temperature: -40°C; Max Operating Temperature: 85°C; Nominal Output Voltage: 5V; Max Output Current: 500mA; Output Current: 500mA; Output Voltage: 5V; Output Power: 2.5W; Packaging: Rail/Tube; Min Input Voltage: 7V; Package Quantity: 42; Voltage - Output 1: 5V; Current - Output 1: 500mA; Max Input Voltage: 28V; Max Output Power: 2.5W; Max Output Voltage: 5V; Length: 11.6mm; Height: 10.4mm; Width: 8.5mm; Depth: 11.6mm; REACH SVHC: No SVHC; Lead Free: Lead Free; ComponentLink1URL: https://datasheet.ciiva.com/7618/1518729-7618512.pdf; ComponentLink1Description: https://datasheet.ciiva.com/7618/1518729-7618512.pdf; ComponentLink2URL: https://datasheet.ciiva.com/16366/r-78exx-0-5-16366357.pdf; ComponentLink2Description: https://datasheet.ciiva.com/16366/r-78exx-0-5-16366357.pdf; ComponentLink3URL: https://datasheet.ciiva.com/14155/r78xx-05-eng-datasheet-14155703.pdf; ComponentLink3Description: https://datasheet.ciiva.com/14155/r78xx-05-eng-datasheet-14155703.pdf; ComponentLink4URL: https://datasheet.ciiva.com/25627/0900766b810a2db7-25627246.pdf; ComponentLink4Description: https://datasheet.ciiva.com/25627/0900766b810a2db7-25627246.pdf; ComponentLink5URL: https://datasheet.ciiva.com/2168/r-78exx-0-5-02-2168671.pdf; ComponentLink5Description: https://datasheet.ciiva.com/2168/r-78exx-0-5-02-2168671.pdf; Supplier Part Number 1: 945-1648-5-ND
footprint R-78E5.0-0.5
pins: 1 +Vin, 2 GND, 3 +Vout

## RESISTOR 1.5K
designator R?, comment 1.5K
Resistor SMD 1.5K OHM 0.1% 1/10W 0603; Manufacturer 1: Panasonic; Manufacturer Part Number 1: ERA-3AEB152V; Description 1: Res Thin Film 0603 1.5K Ohm 0.1% 0.1W ±25ppm/°C Molded SMD Punched Carrier T/R; Category 1: Chip SMD Resistors; Resistance: 1.5kR; Temperature Coefficient: 25ppm/°C; Power Rating: 100mW; Voltage Rating: 75V; Código LNLS: MT103626; Supplier 1: Mouser; Supplier Part Number 1: 667-ERA-3AEB152V; RoHS 1: Yes; Stock 1: 5568; Pricing 1: 1=0,34, 10=0,23, 50=0,23, 100=0,094, 1000=0,05, 10000=0,036 (USD); Mount: Surface Mount; Case/Package: 0603; Number of Pins: 2; Contact Plating: Tin; Case Code (Metric): 1608; Case Code (Imperial): 0603; Size Code: 0603; Min Operating Temperature: -55°C; Max Operating Temperature: 155°C; Tolerance: 0.1%; Resistor Type: Thin Film; Packaging: Tape and Reel; Package Quantity: 1; Number of Terminations: 2; Termination: SMD/SMT; Max Power Dissipation: 100mW; Voltage Rating (DC): 75V; Features: Automotive AEC-Q200; Series: ERA-3A; Resistance Tolerance: 0.1%; Technology: METAL FILM; Length: 1.6mm; Width: 0.8mm; Height: 0.45mm; Depth: 0.8mm; Ratings: AEC-Q200; Radiation Hardening: No; Reach SVHC Compliant: No; Lead Free: Lead Free; RoHS Compliant: Yes; ComponentLink1URL: https://datasheet.ciiva.com/11811/0900766b80beefcc-11811712.pdf?src-supplier=Rs; ComponentLink1Description: https://datasheet.ciiva.com/11811/0900766b80beefcc-11811712.pdf?src-supplier=Rs; ComponentLink2URL: https://datasheet.ciiva.com/29183/450830-da-01-en-widerstand-0603-era-29183764.pdf?src-supplier=Conrad; ComponentLink2Description: https://datasheet.ciiva.com/29183/450830-da-01-en-widerstand-0603-era-29183764.pdf?src-supplier=Conrad; ComponentLink3URL: https://datasheet.ciiva.com/9117/aoa0000ce26-9117365.pdf?src-supplier=Avnet; ComponentLink3Description: https://datasheet.ciiva.com/9117/aoa0000ce26-9117365.pdf?src-supplier=Avnet; ComponentLink4URL: https://datasheet.ciiva.com/5734/485442-5734538.pdf?src-supplier=Farnell; ComponentLink4Description: https://datasheet.ciiva.com/5734/485442-5734538.pdf?src-supplier=Farnell; ComponentLink5URL: https://datasheet.ciiva.com/5734/485442-5734539.pdf?src-supplier=Farnell; ComponentLink5Description: https://datasheet.ciiva.com/5734/485442-5734539.pdf?src-supplier=Farnell; ComponentLink6URL: https://datasheet.ciiva.com/46422/485442-46422565.pdf?src-supplier=Element14; ComponentLink6Description: https://datasheet.ciiva.com/46422/485442-46422565.pdf?src-supplier=Element14; ComponentLink7URL: https://datasheet.ciiva.com/16760/70068849-16760629.pdf?src-supplier=Allied+Electronics; ComponentLink7Description: https://datasheet.ciiva.com/16760/70068849-16760629.pdf?src-supplier=Allied+Electronics; ComponentLink8URL: https://datasheet.ciiva.com/7830/485442-7830591.pdf?src-supplier=Element14; ComponentLink8Description: https://datasheet.ciiva.com/7830/485442-7830591.pdf?src-supplier=Element14; ComponentLink9URL: https://datasheet.ciiva.com/28513/485442-28513834.pdf?src-supplier=Element14; ComponentLink9Description: https://datasheet.ciiva.com/28513/485442-28513834.pdf?src-supplier=Element14; ComponentLink10URL: https://datasheet.ciiva.com/30146/54aoa0000ce26-30146117.pdf?src-supplier=Onlinecomponents.com; ComponentLink10Description: https://datasheet.ciiva.com/30146/54aoa0000ce26-30146117.pdf?src-supplier=Onlinecomponents.com; ComponentLink11URL: https://datasheet.ciiva.com/48530/era-eng-tds-48530507.pdf?src-supplier=Distrelec; ComponentLink11Description: https://datasheet.ciiva.com/48530/era-eng-tds-48530507.pdf?src-supplier=Distrelec
footprint R0603
pins: 1, 2

## RESISTOR 1K
designator R?, comment 1K
Resistor SMD 1K OHM 0.1% 1/4W 0805; Manufacturer 1: TE Connectivity; Manufacturer Part Number 1: 1-2176092-8; Description 1: SMD Chip Resistor, 1 kOhm, ± 0.1%, 250 mW, 0805 [2012 Metric], Thin Film, High Power Precision; Category 1: Chip SMD Resistors; Resistance: 1kR; Power Rating: 250mW; Temperature Coefficient: 25ppm/°C; Voltage Rating: 150V; Number of Resistors: 1; Código LNLS: MT112491; Supplier 1: Mouser; Supplier Part Number 1: 279-1-2176092-8; RoHS 1: Yes; Stock 1: 12918; Pricing 1: 1=0,55, 10=0,304, 50=0,304, 100=0,252, 1000=0,152, 10000=0,138 (USD); Mount: Surface Mount; Case/Package: 0805; Case Code (Metric): 2012; Case Code (Imperial): 0805; Min Operating Temperature: -55°C; Max Operating Temperature: 155°C; Packaging: Tape and Reel; Tolerance: 0.1%; Resistor Type: Thin Film; Termination: Solder; Series: RP73P, Holsworthy; Voltage Rating (DC): 150V; Number of Terminations: 2; Max Power Dissipation: 250mW; Operating Supply Voltage: 150V; Depth: 1.25mm; RoHS Compliant: Yes; Reach SVHC Compliant: 4186SVHC; Lead Free: 5697LeadFree; ComponentLink1URL: https://datasheet.octopart.com/RP73PF2A1K0BTDF-Tyco-Electronics-datasheet-11516962.pdf?src-supplier=Electro+Sonic; ComponentLink1Description: https://datasheet.octopart.com/RP73PF2A1K0BTDF-Tyco-Electronics-datasheet-11516962.pdf?src-supplier=Electro+Sonic
footprint R0805
pins: 1, 2

## RESISTOR 14K
designator R?, comment 14K
Resistor SMD 14K OHM 0.1% 1/10W 0603; Manufacturer 1: Panasonic; Manufacturer Part Number 1: ERA-3AEB1402V; Description 1: Res Thin Film 0603 14K Ohm 0.1% 1/10W ±25ppm/°C Molded SMD SMD Punched Carrier T/R; Category 1: Chip SMD Resistors; Resistance: 14kR; Temperature Coefficient: 25ppm/°C; Power Rating: 100mW; Voltage Rating: 75V; Código LNLS: AP107375; Supplier 1: Mouser; Supplier Part Number 1: 667-ERA-3AEB1402V; RoHS 1: Yes; Stock 1: 14599; Pricing 1: 1=0,31, 10=0,139, 50=0,139, 100=0,062, 1000=0,043, 10000=0,033 (USD); Mount: Surface Mount; Case/Package: 0603; Number of Pins: 2; Case Code (Metric): 1608; Case Code (Imperial): 0603; Min Operating Temperature: -55°C; Max Operating Temperature: 155°C; Tolerance: 0.1%; Resistor Type: Thin Film; Packaging: Tape and Reel; Series: ERA; Technology: METAL FILM; Resistance Tolerance: 0.1%; Length: 1.6mm; Width: 1.6mm; Height: 0.45mm; Depth: 0.8mm; ComponentLink1URL: https://datasheet.ciiva.com/11809/0900766b80eb1d8c-11809141.pdf?src-supplier=Rs; ComponentLink1Description: https://datasheet.ciiva.com/11809/0900766b80eb1d8c-11809141.pdf?src-supplier=Rs; ComponentLink2URL: https://datasheet.ciiva.com/29184/452497-da-01-en-widerstand-0603-era-29184016.pdf?src-supplier=Conrad; ComponentLink2Description: https://datasheet.ciiva.com/29184/452497-da-01-en-widerstand-0603-era-29184016.pdf?src-supplier=Conrad; ComponentLink3URL: https://datasheet.ciiva.com/9193/aoa0000ce26-9193183.pdf?src-supplier=Avnet; ComponentLink3Description: https://datasheet.ciiva.com/9193/aoa0000ce26-9193183.pdf?src-supplier=Avnet; ComponentLink4URL: https://datasheet.ciiva.com/24063/aoa0000ce26-197354-24063590.pdf?src-supplier=Mouser; ComponentLink4Description: https://datasheet.ciiva.com/24063/aoa0000ce26-197354-24063590.pdf?src-supplier=Mouser; ComponentLink5URL: https://datasheet.ciiva.com/15805/aoa0000ce26-15805493.pdf?src-supplier=Onlinecomponents.com; ComponentLink5Description: https://datasheet.ciiva.com/15805/aoa0000ce26-15805493.pdf?src-supplier=Onlinecomponents.com; ComponentLink6URL: https://datasheet.ciiva.com/5987/485442-5987128.pdf?src-supplier=Farnell; ComponentLink6Description: https://datasheet.ciiva.com/5987/485442-5987128.pdf?src-supplier=Farnell; ComponentLink7URL: https://datasheet.ciiva.com/5987/485442-5987130.pdf?src-supplier=Farnell; ComponentLink7Description: https://datasheet.ciiva.com/5987/485442-5987130.pdf?src-supplier=Farnell; ComponentLink8URL: https://datasheet.ciiva.com/5987/485442-5987131.pdf?src-supplier=Farnell; ComponentLink8Description: https://datasheet.ciiva.com/5987/485442-5987131.pdf?src-supplier=Farnell
footprint R0603
pins: 1, 2

## RESISTOR 49.9R
designator R?, comment 49.9R
Resistor SMD 49.9R OHM 0.1% 1/10W 0603; Manufacturer 1: Panasonic; Manufacturer Part Number 1: ERA-3AEB49R9V; Description 1: Res Thin Film 0603 49.9 Ohm 0.1% 1/10W ±25ppm/°C Molded SMD SMD Punched Carrier T/R; Category 1: Chip SMD Resistors; Power Rating: 100mW; Voltage Rating: 150V; Temperature Coefficient: 25ppm/°C; Voltage Rating (DC): 75V; Código LNLS: AP105077; Supplier 1: Mouser; Supplier Part Number 1: 667-ERA-3AEB49R9V; RoHS 1: Yes; Stock 1: 101205; Pricing 1: 1=0,35, 10=0,302, 50=0,302, 100=0,118, 1000=0,049, 10000=0,038 (USD); Mount: Surface Mount; Case/Package: 0603; Number of Pins: 2; Case Code (Metric): 1608; Case Code (Imperial): 0603; Contact Plating: Tin; Min Operating Temperature: -55°C; Max Operating Temperature: 155°C; Resistance: 49.9R; Tolerance: 0.1%; Packaging: Tape and Reel; Package Quantity: 1; Resistor Type: Thin Film; Number of Terminations: 2; Termination: SMD/SMT; Max Power Dissipation: 100mW; Features: Automotive AEC-Q200; Series: ERA-3A; Resistance Tolerance: 0.1%; Technology: METAL FILM; Length: 1.6mm; Width: 0.8mm; Height: 0.45mm; Depth: 0.8mm; Reach SVHC Compliant: No; Lead Free: Lead Free; RoHS Compliant: Yes; ComponentLink1URL: https://datasheet.ciiva.com/30262/54aoa0000ce26-30262586.pdf?src-supplier=Onlinecomponents.com; ComponentLink1Description: https://datasheet.ciiva.com/30262/54aoa0000ce26-30262586.pdf?src-supplier=Onlinecomponents.com
footprint R0603
pins: 1, 2

## RESISTOR 120R
designator R?, comment 120R
Resistor SMD 120R OHM 1% 1/8W 0805; Manufacturer 1: Panasonic; Manufacturer Part Number 1: ERJ-6ENF1200V; Description 1: SMD Chip Resistor, 120 Ohm, ± 1%, 125 mW, 0805 [2012 Metric], Thick Film, Precision; Category 1: Chip SMD Resistors; Temperature Coefficient: 100ppm/°C; Power Rating: 125mW; Voltage Rating: 150V; Código LNLS: MT100270; Supplier 1: Mouser; Supplier Part Number 1: 667-ERJ-6ENF1200V; RoHS 1: Yes; Stock 1: 119970; Pricing 1: 1=0,1, 10=0,043, 50=0,043, 100=0,019, 1000=0,014, 10000=0,009 (USD); Mount: Surface Mount; Case/Package: 0805; Number of Pins: 2; Contact Plating: Tin; Case Code (Imperial): 0805; Case Code (Metric): 2012; Min Operating Temperature: -55°C; Max Operating Temperature: 155°C; Resistance: 120R; Tolerance: 1%; Resistor Type: Thick Film; Packaging: Tape and Reel; Package Quantity: 1; Termination: SMD/SMT; Number of Terminations: 2; Max Power Dissipation: 125mW; Features: Automotive AEC-Q200; Series: ERJ; Resistance Tolerance: 1%; Construction: Rectangular; Technology: THICK FILM; Voltage Rating (DC): 150V; Length: 2mm; Width: 1.2mm; Height: 0.6mm; Depth: 1.25mm; Radiation Hardening: No; Reach SVHC Compliant: No; Military Standard: Not; RoHS Compliant: Yes; ComponentLink1URL: https://datasheet.ciiva.com/11821/0900766b80f80784-11821533.pdf?src-supplier=Rs; ComponentLink1Description: https://datasheet.ciiva.com/11821/0900766b80f80784-11821533.pdf?src-supplier=Rs; ComponentLink2URL: https://datasheet.ciiva.com/6082/426256-6082139.pdf?src-supplier=Farnell; ComponentLink2Description: https://datasheet.ciiva.com/6082/426256-6082139.pdf?src-supplier=Farnell; ComponentLink3URL: https://datasheet.ciiva.com/7886/426256-7886749.pdf?src-supplier=Element14; ComponentLink3Description: https://datasheet.ciiva.com/7886/426256-7886749.pdf?src-supplier=Element14; ComponentLink4URL: https://datasheet.ciiva.com/46373/1678782-46373272.pdf?src-supplier=Element14; ComponentLink4Description: https://datasheet.ciiva.com/46373/1678782-46373272.pdf?src-supplier=Element14; ComponentLink5URL: https://datasheet.ciiva.com/22687/1678782-22687419.pdf?src-supplier=Element14; ComponentLink5Description: https://datasheet.ciiva.com/22687/1678782-22687419.pdf?src-supplier=Element14; ComponentLink6URL: https://datasheet.ciiva.com/16782/70260748-16782215.pdf?src-supplier=Allied+Electronics; ComponentLink6Description: https://datasheet.ciiva.com/16782/70260748-16782215.pdf?src-supplier=Allied+Electronics; ComponentLink7URL: https://datasheet.ciiva.com/16765/70260748-16765246.pdf?src-supplier=Allied+Electronics; ComponentLink7Description: https://datasheet.ciiva.com/16765/70260748-16765246.pdf?src-supplier=Allied+Electronics; ComponentLink8URL: https://datasheet.ciiva.com/9117/aoa0000ce2-9117405.pdf?src-supplier=Avnet; ComponentLink8Description: https://datasheet.ciiva.com/9117/aoa0000ce2-9117405.pdf?src-supplier=Avnet; ComponentLink9URL: https://datasheet.ciiva.com/15158/getdatasheetpartid-248620-15158999.pdf?src-supplier=Verical; ComponentLink9Description: https://datasheet.ciiva.com/15158/getdatasheetpartid-248620-15158999.pdf?src-supplier=Verical; ComponentLink10URL: https://datasheet.ciiva.com/22673/1678782-22673701.pdf?src-supplier=Element14; ComponentLink10Description: https://datasheet.ciiva.com/22673/1678782-22673701.pdf?src-supplier=Element14; ComponentLink11URL: https://datasheet.ciiva.com/46373/1678782-46373273.pdf?src-supplier=Element14; ComponentLink11Description: https://datasheet.ciiva.com/46373/1678782-46373273.pdf?src-supplier=Element14; ComponentLink12URL: https://datasheet.ciiva.com/24069/aoa0000ce2-24069192.pdf?src-supplier=Mouser; ComponentLink12Description: https://datasheet.ciiva.com/24069/aoa0000ce2-24069192.pdf?src-supplier=Mouser
footprint R0805
pins: 1, 2

## RESISTOR 270R
designator R?, comment 270R
Resistor SMD 270 OHM 1% 1/10W 0603; Manufacturer 1: Vishay Dale; Manufacturer Part Number 1: CRCW0603270RFKEAC; Description 1: Res Thick Film 0603 270 Ohm 1% 0.1W(1/10W) ±100ppm/C Pad SMD T/R; Category 1: Chip SMD Resistors; Max Power Dissipation: 100mW; Temperature Coefficient: 100ppm/°C; Código LNLS: AP100898; Supplier 1: Mouser; Supplier Part Number 1: 71-CRCW0603270RFKEAC; RoHS 1: Yes; Stock 1: 68500; Pricing 1: 1=0,1, 10=0,016, 50=0,016, 100=0,009, 1000=0,006, 10000=0,004 (USD); Case/Package: 0603; Min Operating Temperature: -55°C; Max Operating Temperature: 155°C; Packaging: Tape and Reel; Resistance: 270R; Tolerance: 1%; Number of Terminations: 2; Series: CRCW-C; RoHS Compliant: Yes; ComponentLink1URL: http://www.vishay.com/docs/28773/crcwce3.pdf?src-supplier=Digi-Key; ComponentLink1Description: http://www.vishay.com/docs/28773/crcwce3.pdf?src-supplier=Digi-Key; ComponentLink2URL: https://datasheet.octopart.com/CRCW0603270RFKEAC-Vishay-datasheet-102570912.pdf?src-supplier=Future+Electronics; ComponentLink2Description: https://datasheet.octopart.com/CRCW0603270RFKEAC-Vishay-datasheet-102570912.pdf?src-supplier=Future+Electronics
footprint R0603
pins: 1, 2

## VOLTAGE TRANSDUCER LV 20-P
designator T?, comment Text: LV 20-P  (hidden comment: Voltagem Transducer LV 20-P)
Manufacturer: LEM USA Inc.; Sensor Type: Voltage, Closed Loop; Código LNLS: AR102474; Supplier 1: Digi-Key; RoHS: RoHS Compliant; Category: Sensors, Transducers; Stock 1: 348; Pricing 1: 1=45.54, 5=43.47, 10=39.33, 25=36.2252, 50=32.085, 100=31.05 (USD); Part Status: Active; Output Type: Voltage; ComponentLink1URL: http://media.digikey.com/pdf/Data%20Sheets/LEM%20USA%20PDFs/LV%2020-P.pdf; ComponentLink1Description: http://media.digikey.com/pdf/Data%20Sheets/LEM%20USA%20PDFs/LV%2020-P.pdf; Supplier Part Number 1: 398-1020-ND; Manufacturer Part Number: LV 20-P
footprint VOLTAGE TRANSDUCER LV 20-P (Voltage Transducer LV 20-P)
pins: 1 +HV, 2 -HV, 3 -, 4 +, 5 M